# EAGLE library part STM32F767ZIT6 (library ruark2)
ARM® Cortex®-M7 STM32F7 Microcontroller IC 32-Bit 216MHz 2MB (2M x 8) FLASH 144-LQFP (20x20)
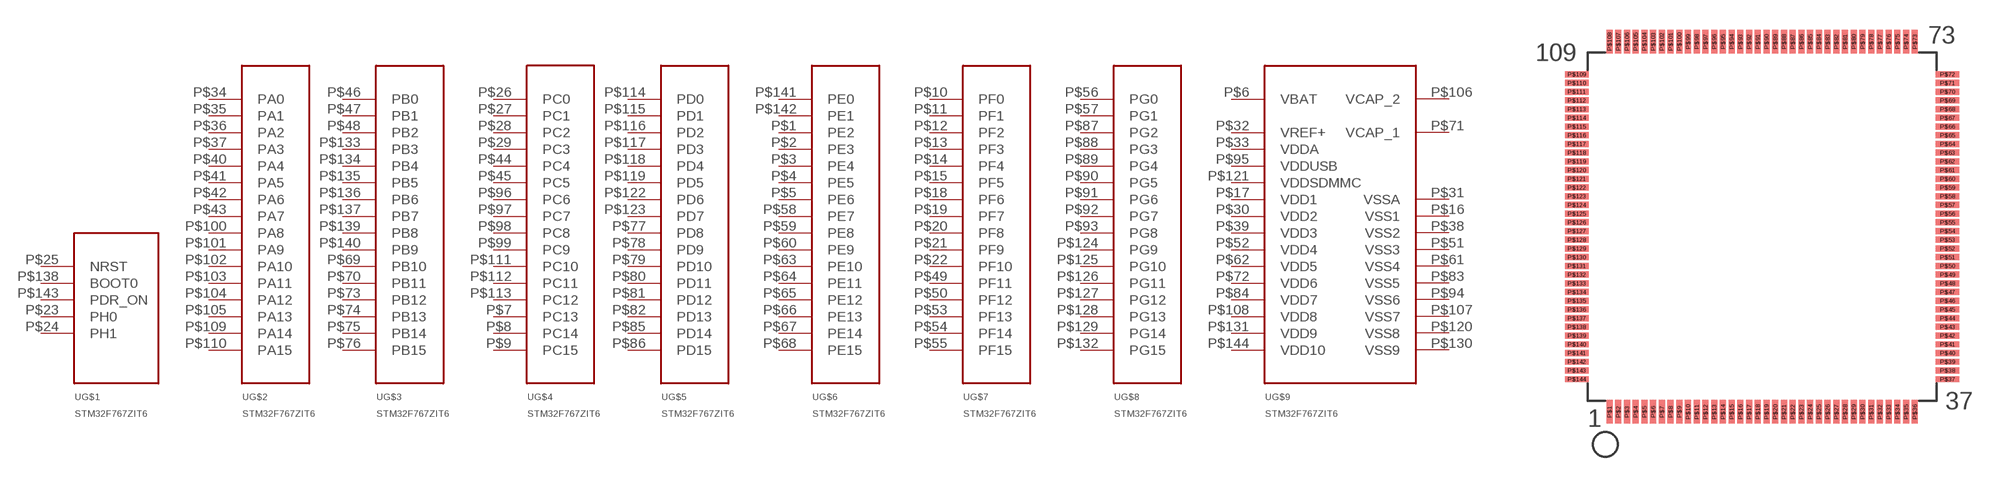
[diagram p104: symbol with the pads of LQFP144; footprint LQFP144]

Designator prefix U; gates G$1=STM32F767ZIT6_MISC G$2=STM32F767ZIT6_PA G$3=STM32F767ZIT6_PB G$4=STM32F767ZIT6_PC G$5=STM32F767ZIT6_PD G$6=STM32F767ZIT6_PE G$7=STM32F767ZIT6_PF G$8=STM32F767ZIT6_PG G$9=STM32F767ZIT6_PWR

## STM32F767ZIT6 (PARTNO: 497-16521-ND)  [LQFP144]
P$1  G$6:PE2
P$2  G$6:PE3
P$3  G$6:PE4
P$4  G$6:PE5
P$5  G$6:PE6
P$6  G$9:VBAT
P$7  G$4:PC13
P$8  G$4:PC14
P$9  G$4:PC15
P$10  G$7:PF0
P$11  G$7:PF1
P$12  G$7:PF2
P$13  G$7:PF3
P$14  G$7:PF4
P$15  G$7:PF5
P$16  G$9:VSS1
P$17  G$9:VDD1
P$18  G$7:PF6
P$19  G$7:PF7
P$20  G$7:PF8
P$21  G$7:PF9
P$22  G$7:PF10
P$23  G$1:PH0
P$24  G$1:PH1
P$25  G$1:NRST
P$26  G$4:PC0
P$27  G$4:PC1
P$28  G$4:PC2
P$29  G$4:PC3
P$30  G$9:VDD2
P$31  G$9:VSSA
P$32  G$9:VREF+
P$33  G$9:VDDA
P$34  G$2:PA0
P$35  G$2:PA1
P$36  G$2:PA2
P$37  G$2:PA3
P$38  G$9:VSS2
P$39  G$9:VDD3
P$40  G$2:PA4
P$41  G$2:PA5
P$42  G$2:PA6
P$43  G$2:PA7
P$44  G$4:PC4
P$45  G$4:PC5
P$46  G$3:PB0
P$47  G$3:PB1
P$48  G$3:PB2
P$49  G$7:PF11
P$50  G$7:PF12
P$51  G$9:VSS3
P$52  G$9:VDD4
P$53  G$7:PF13
P$54  G$7:PF14
P$55  G$7:PF15
P$56  G$8:PG0
P$57  G$8:PG1
P$58  G$6:PE7
P$59  G$6:PE8
P$60  G$6:PE9
P$61  G$9:VSS4
P$62  G$9:VDD5
P$63  G$6:PE10
P$64  G$6:PE11
P$65  G$6:PE12
P$66  G$6:PE13
P$67  G$6:PE14
P$68  G$6:PE15
P$69  G$3:PB10
P$70  G$3:PB11
P$71  G$9:VCAP_1
P$72  G$9:VDD6
P$73  G$3:PB12
P$74  G$3:PB13
P$75  G$3:PB14
P$76  G$3:PB15
P$77  G$5:PD8
P$78  G$5:PD9
P$79  G$5:PD10
P$80  G$5:PD11
P$81  G$5:PD12
P$82  G$5:PD13
P$83  G$9:VSS5
P$84  G$9:VDD7
P$85  G$5:PD14
P$86  G$5:PD15
P$87  G$8:PG2
P$88  G$8:PG3
P$89  G$8:PG4
P$90  G$8:PG5
P$91  G$8:PG6
P$92  G$8:PG7
P$93  G$8:PG8
P$94  G$9:VSS6
P$95  G$9:VDDUSB
P$96  G$4:PC6
P$97  G$4:PC7
P$98  G$4:PC8
P$99  G$4:PC9
P$100  G$2:PA8
P$101  G$2:PA9
P$102  G$2:PA10
P$103  G$2:PA11
P$104  G$2:PA12
P$105  G$2:PA13
P$106  G$9:VCAP_2
P$107  G$9:VSS7
P$108  G$9:VDD8
P$109  G$2:PA14
P$110  G$2:PA15
P$111  G$4:PC10
P$112  G$4:PC11
P$113  G$4:PC12
P$114  G$5:PD0
P$115  G$5:PD1
P$116  G$5:PD2
P$117  G$5:PD3
P$118  G$5:PD4
P$119  G$5:PD5
P$120  G$9:VSS8
P$121  G$9:VDDSDMMC
P$122  G$5:PD6
P$123  G$5:PD7
P$124  G$8:PG9
P$125  G$8:PG10
P$126  G$8:PG11
P$127  G$8:PG12
P$128  G$8:PG13
P$129  G$8:PG14
P$130  G$9:VSS9
P$131  G$9:VDD9
P$132  G$8:PG15
P$133  G$3:PB3
P$134  G$3:PB4
P$135  G$3:PB5
P$136  G$3:PB6
P$137  G$3:PB7
P$138  G$1:BOOT0
P$139  G$3:PB8
P$140  G$3:PB9
P$141  G$6:PE0
P$142  G$6:PE1
P$143  G$1:PDR_ON
P$144  G$9:VDD10

## Footprint LQFP144 (pad centres in mm)
smd 0.35 x 1.35: P$1 -8.75,-10.625; P$2 -8.25,-10.625; P$3 -7.75,-10.625; P$4 -7.25,-10.625; P$5 -6.75,-10.625; P$6 -6.25,-10.625; P$7 -5.75,-10.625; P$8 -5.25,-10.625; P$9 -4.75,-10.625; P$10 -4.25,-10.625; P$11 -3.75,-10.625; P$12 -3.25,-10.625; P$13 -2.75,-10.625; P$14 -2.25,-10.625; P$15 -1.75,-10.625; P$16 -1.25,-10.625; P$17 -0.75,-10.625; P$18 -0.25,-10.625; P$19 0.25,-10.625; P$20 0.75,-10.625; P$21 1.25,-10.625; P$22 1.75,-10.625; P$23 2.25,-10.625; P$24 2.75,-10.625; P$25 3.25,-10.625; P$26 3.75,-10.625; P$27 4.25,-10.625; P$28 4.75,-10.625; P$29 5.25,-10.625; P$30 5.75,-10.625; P$31 6.25,-10.625; P$32 6.75,-10.625; P$33 7.25,-10.625; P$34 7.75,-10.625; P$35 8.25,-10.625; P$36 8.75,-10.625; P$73 8.75,10.625; P$74 8.25,10.625; P$75 7.75,10.625; P$76 7.25,10.625; P$77 6.75,10.625; P$78 6.25,10.625; P$79 5.75,10.625; P$80 5.25,10.625; P$81 4.75,10.625; P$82 4.25,10.625; P$83 3.75,10.625; P$84 3.25,10.625; P$85 2.75,10.625; P$86 2.25,10.625; P$87 1.75,10.625; P$88 1.25,10.625; P$89 0.75,10.625; P$90 0.25,10.625; P$91 -0.25,10.625; P$92 -0.75,10.625; P$93 -1.25,10.625; P$94 -1.75,10.625; P$95 -2.25,10.625; P$96 -2.75,10.625; P$97 -3.25,10.625; P$98 -3.75,10.625; P$99 -4.25,10.625; P$100 -4.75,10.625; P$101 -5.25,10.625; P$102 -5.75,10.625; P$103 -6.25,10.625; P$104 -6.75,10.625; P$105 -7.25,10.625; P$106 -7.75,10.625; P$107 -8.25,10.625; P$108 -8.75,10.625
smd 1.35 x 0.35: P$37 10.625,-8.75; P$38 10.625,-8.25; P$39 10.625,-7.75; P$40 10.625,-7.25; P$41 10.625,-6.75; P$42 10.625,-6.25; P$43 10.625,-5.75; P$44 10.625,-5.25; P$45 10.625,-4.75; P$46 10.625,-4.25; P$47 10.625,-3.75; P$48 10.625,-3.25; P$49 10.625,-2.75; P$50 10.625,-2.25; P$51 10.625,-1.75; P$52 10.625,-1.25; P$53 10.625,-0.75; P$54 10.625,-0.25; P$55 10.625,0.25; P$56 10.625,0.75; P$57 10.625,1.25; P$58 10.625,1.75; P$59 10.625,2.25; P$60 10.625,2.75; P$61 10.625,3.25; P$62 10.625,3.75; P$63 10.625,4.25; P$64 10.625,4.75; P$65 10.625,5.25; P$66 10.625,5.75; P$67 10.625,6.25; P$68 10.625,6.75; P$69 10.625,7.25; P$70 10.625,7.75; P$71 10.625,8.25; P$72 10.625,8.75; P$109 -10.625,8.75; P$110 -10.625,8.25; P$111 -10.625,7.75; P$112 -10.625,7.25; P$113 -10.625,6.75; P$114 -10.625,6.25; P$115 -10.625,5.75; P$116 -10.625,5.25; P$117 -10.625,4.75; P$118 -10.625,4.25; P$119 -10.625,3.75; P$120 -10.625,3.25; P$121 -10.625,2.75; P$122 -10.625,2.25; P$123 -10.625,1.75; P$124 -10.625,1.25; P$125 -10.625,0.75; P$126 -10.625,0.25; P$127 -10.625,-0.25; P$128 -10.625,-0.75; P$129 -10.625,-1.25; P$130 -10.625,-1.75; P$131 -10.625,-2.25; P$132 -10.625,-2.75; P$133 -10.625,-3.25; P$134 -10.625,-3.75; P$135 -10.625,-4.25; P$136 -10.625,-4.75; P$137 -10.625,-5.25; P$138 -10.625,-5.75; P$139 -10.625,-6.25; P$140 -10.625,-6.75; P$141 -10.625,-7.25; P$142 -10.625,-7.75; P$143 -10.625,-8.25; P$144 -10.625,-8.75